# EAGLE library part OPAMP-DISCRETE-W/TRIM-DOA (library ryans-common-components)
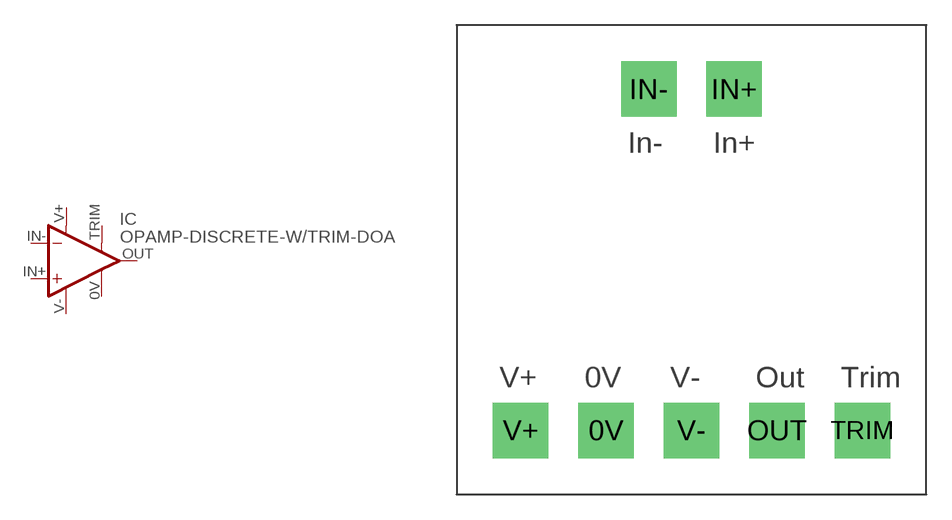
[diagram p5: symbol with the pads of DOA-W/TRIM-SOCKET; footprint DOA-W/TRIM-SOCKET]

Designator prefix IC

## OPAMP-DISCRETE-W/TRIM-DOA  [DOA-W/TRIM-SOCKET]
0V  0V
IN+  IN+
IN-  IN-
OUT  OUT
TRIM  TRIM
V+  V+
V-  V-

## Footprint DOA-W/TRIM-SOCKET (pad centres in mm)
drill 2.286 square: 0V -5.08,-10.16; IN+ 2.54,10.16; IN- -2.54,10.16; OUT 5.08,-10.16; TRIM 10.16,-10.16; V+ -10.16,-10.16; V- 0,-10.16